# Altium footprint library LED Display Drivers.PcbLib: 4 footprints
Each footprint in its own frame and in the unit in brackets; x right, y up, seen from the top. Pads: shape width x height; smd on the part's side, far side on the other; paste and mask are expansions set on the pad; w line width, h text height; cw(c..) or ccw(c..) is an arc to the next point about the centre after c.
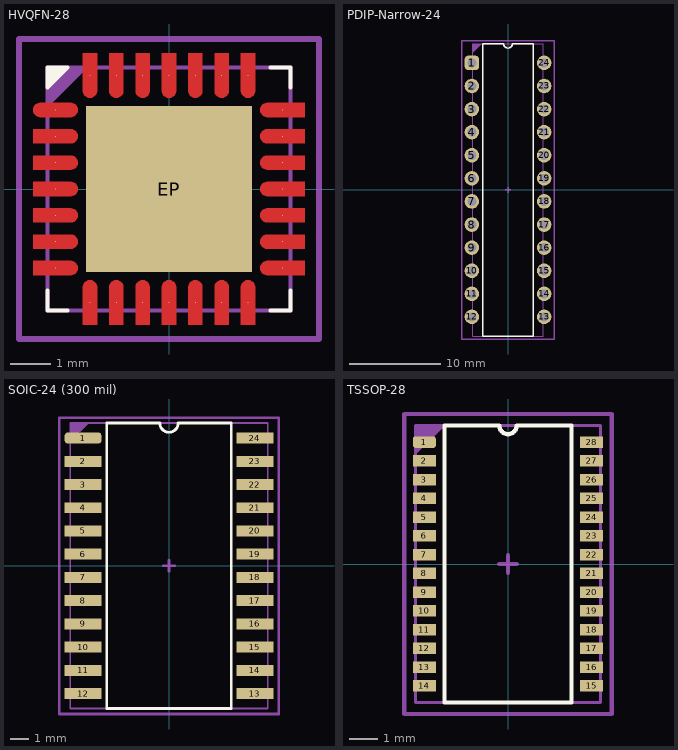
[diagram p0: the footprints below, top view; thin cyan lines are the x and y axes]

## HVQFN-28 [mil]
pads (29):
  round 1 smd: 1(-110.24,76.77) 2(-110.24,51.18) 3(-110.24,25.59) 4(-110.24,0) 5(-110.24,-25.59) 6(-110.24,-51.18) 7(-110.24,-76.77) 8(-76.77,-110.24) 9(-51.18,-110.24) 10(-25.59,-110.24) 11(0,-110.24) 12(25.59,-110.24) 13(51.18,-110.24) 14(76.77,-110.24) 15(110.24,-76.77) 16(110.24,-51.18) 17(110.24,-25.59) 18(110.24,0) 19(110.24,25.59) 20(110.24,51.18) 21(110.24,76.77) 22(76.77,110.24) 23(51.18,110.24) 24(25.59,110.24) 25(0,110.24) 26(-25.59,110.24) 27(-51.18,110.24) 28(-76.77,110.24)
  rect 161.42x161.42 smd paste-118.11: EP(0,0)
Top Layer:
  region: 18.7,-131.89 32.48,-131.89 32.48,-95.47 32.48,-94.79 32.22,-93.46 31.7,-92.21 30.94,-91.08 29.98,-90.12 28.85,-89.37 27.6,-88.85 26.27,-88.58 25.59,-88.58 24.91,-88.58 23.58,-88.85 22.33,-89.37 21.2,-90.12 20.24,-91.08 19.48,-92.21 18.97,-93.46 18.7,-94.8 18.7,-95.47
  region: -131.89,76.77 -131.89,76.09 -131.62,74.76 -131.11,73.51 -130.35,72.38 -129.39,71.42 -128.26,70.67 -127.01,70.15 -125.68,69.88 -125,69.88 -95.47,69.88 -94.79,69.88 -93.46,70.15 -92.21,70.67 -91.08,71.42 -90.12,72.38 -89.37,73.51 -88.85,74.76 -88.58,76.09 -88.58,76.77 -88.58,77.45 -88.85,78.78 -89.37,80.04 -90.12,81.16 -91.08,82.12 -92.21,82.88 -93.46,83.4 -94.8,83.66 -95.47,83.66 -125,83.66 -125.68,83.66 -127.01,83.4 -128.26,82.88 -129.39,82.12 -130.35,81.16 -131.11,80.04 -131.62,78.78 -131.89,77.45
  region: -131.89,58.07 -131.89,44.29 -95.47,44.29 -94.79,44.29 -93.46,44.56 -92.21,45.08 -91.08,45.83 -90.12,46.79 -89.37,47.92 -88.85,49.17 -88.58,50.5 -88.58,51.18 -88.58,51.86 -88.85,53.19 -89.37,54.45 -90.12,55.57 -91.08,56.53 -92.21,57.29 -93.46,57.81 -94.8,58.07 -95.47,58.07
  region: -131.89,32.48 -131.89,18.7 -95.47,18.7 -94.79,18.7 -93.46,18.97 -92.21,19.48 -91.08,20.24 -90.12,21.2 -89.37,22.33 -88.85,23.58 -88.58,24.91 -88.58,25.59 -88.58,26.27 -88.85,27.6 -89.37,28.85 -90.12,29.98 -91.08,30.94 -92.21,31.7 -93.46,32.22 -94.8,32.48 -95.47,32.48
  region: -131.89,6.89 -131.89,-6.89 -95.47,-6.89 -94.79,-6.89 -93.46,-6.62 -92.21,-6.11 -91.08,-5.35 -90.12,-4.39 -89.37,-3.26 -88.85,-2.01 -88.58,-0.68 -88.58,0 -88.58,0.68 -88.85,2.01 -89.37,3.26 -90.12,4.39 -91.08,5.35 -92.21,6.11 -93.46,6.63 -94.8,6.89 -95.47,6.89
  region: -131.89,-18.7 -131.89,-32.48 -95.47,-32.48 -94.79,-32.48 -93.46,-32.22 -92.21,-31.7 -91.08,-30.94 -90.12,-29.98 -89.37,-28.85 -88.85,-27.6 -88.58,-26.27 -88.58,-25.59 -88.58,-24.91 -88.85,-23.58 -89.37,-22.33 -90.12,-21.2 -91.08,-20.24 -92.21,-19.48 -93.46,-18.97 -94.8,-18.7 -95.47,-18.7
  region: -131.89,-44.29 -131.89,-58.07 -95.47,-58.07 -94.79,-58.07 -93.46,-57.81 -92.21,-57.29 -91.08,-56.53 -90.12,-55.57 -89.37,-54.44 -88.85,-53.19 -88.58,-51.86 -88.58,-51.18 -88.58,-50.5 -88.85,-49.17 -89.37,-47.92 -90.12,-46.79 -91.08,-45.83 -92.21,-45.07 -93.46,-44.56 -94.8,-44.29 -95.47,-44.29
  region: -131.89,-69.88 -131.89,-83.66 -95.47,-83.66 -94.79,-83.66 -93.46,-83.4 -92.21,-82.88 -91.08,-82.12 -90.12,-81.16 -89.37,-80.04 -88.85,-78.78 -88.58,-77.45 -88.58,-76.77 -88.58,-76.09 -88.85,-74.76 -89.37,-73.51 -90.12,-72.38 -91.08,-71.42 -92.21,-70.67 -93.46,-70.15 -94.8,-69.88 -95.47,-69.88
  region: -83.66,-131.89 -69.88,-131.89 -69.88,-95.47 -69.88,-94.79 -70.15,-93.46 -70.67,-92.21 -71.42,-91.08 -72.38,-90.12 -73.51,-89.37 -74.76,-88.85 -76.09,-88.58 -76.77,-88.58 -77.45,-88.58 -78.78,-88.85 -80.04,-89.37 -81.16,-90.12 -82.12,-91.08 -82.88,-92.21 -83.4,-93.46 -83.66,-94.8 -83.66,-95.47
  region: -58.07,-131.89 -44.29,-131.89 -44.29,-95.47 -44.29,-94.79 -44.56,-93.46 -45.08,-92.21 -45.83,-91.08 -46.79,-90.12 -47.92,-89.37 -49.17,-88.85 -50.5,-88.58 -51.18,-88.58 -51.86,-88.58 -53.19,-88.85 -54.45,-89.37 -55.57,-90.12 -56.53,-91.08 -57.29,-92.21 -57.81,-93.46 -58.07,-94.8 -58.07,-95.47
  region: -32.48,-131.89 -18.7,-131.89 -18.7,-95.47 -18.7,-94.79 -18.97,-93.46 -19.49,-92.21 -20.24,-91.08 -21.2,-90.12 -22.33,-89.37 -23.58,-88.85 -24.91,-88.58 -25.59,-88.58 -26.27,-88.58 -27.6,-88.85 -28.85,-89.37 -29.98,-90.12 -30.94,-91.08 -31.7,-92.21 -32.22,-93.46 -32.48,-94.8 -32.48,-95.47
  region: -6.89,-131.89 6.89,-131.89 6.89,-95.47 6.89,-94.79 6.62,-93.46 6.11,-92.21 5.35,-91.08 4.39,-90.12 3.26,-89.37 2.01,-88.85 0.68,-88.58 0,-88.58 -0.68,-88.58 -2.01,-88.85 -3.26,-89.37 -4.39,-90.12 -5.35,-91.08 -6.11,-92.21 -6.63,-93.46 -6.89,-94.8 -6.89,-95.47
  region: 44.29,-131.89 58.07,-131.89 58.07,-95.47 58.07,-94.79 57.81,-93.46 57.29,-92.21 56.53,-91.08 55.57,-90.12 54.44,-89.37 53.19,-88.85 51.86,-88.58 51.18,-88.58 50.5,-88.58 49.17,-88.85 47.92,-89.37 46.79,-90.12 45.83,-91.08 45.07,-92.21 44.56,-93.46 44.29,-94.8 44.29,-95.47
  region: 69.88,-131.89 83.66,-131.89 83.66,-95.47 83.66,-94.79 83.4,-93.46 82.88,-92.21 82.12,-91.08 81.16,-90.12 80.04,-89.37 78.78,-88.85 77.45,-88.58 76.77,-88.58 76.09,-88.58 74.76,-88.85 73.51,-89.37 72.38,-90.12 71.42,-91.08 70.67,-92.21 70.15,-93.46 69.88,-94.8 69.88,-95.47
  region: 131.89,-83.66 131.89,-69.88 95.47,-69.88 94.79,-69.88 93.46,-70.15 92.21,-70.67 91.08,-71.42 90.12,-72.38 89.37,-73.51 88.85,-74.76 88.58,-76.09 88.58,-76.77 88.58,-77.45 88.85,-78.78 89.37,-80.04 90.12,-81.16 91.08,-82.12 92.21,-82.88 93.46,-83.4 94.8,-83.66 95.47,-83.66
  region: 131.89,-58.07 131.89,-44.29 95.47,-44.29 94.79,-44.29 93.46,-44.56 92.21,-45.08 91.08,-45.83 90.12,-46.79 89.37,-47.92 88.85,-49.17 88.58,-50.5 88.58,-51.18 88.58,-51.86 88.85,-53.19 89.37,-54.45 90.12,-55.57 91.08,-56.53 92.21,-57.29 93.46,-57.81 94.8,-58.07 95.47,-58.07
  region: 131.89,-32.48 131.89,-18.7 95.47,-18.7 94.79,-18.7 93.46,-18.97 92.21,-19.48 91.08,-20.24 90.12,-21.2 89.37,-22.33 88.85,-23.58 88.58,-24.91 88.58,-25.59 88.58,-26.27 88.85,-27.6 89.37,-28.85 90.12,-29.98 91.08,-30.94 92.21,-31.7 93.46,-32.22 94.8,-32.48 95.47,-32.48
  region: 131.89,-6.89 131.89,6.89 95.47,6.89 94.79,6.89 93.46,6.62 92.21,6.11 91.08,5.35 90.12,4.39 89.37,3.26 88.85,2.01 88.58,0.68 88.58,0 88.58,-0.68 88.85,-2.01 89.37,-3.26 90.12,-4.39 91.08,-5.35 92.21,-6.11 93.46,-6.63 94.8,-6.89 95.47,-6.89
  region: 131.89,18.7 131.89,32.48 95.47,32.48 94.79,32.48 93.46,32.22 92.21,31.7 91.08,30.94 90.12,29.98 89.37,28.85 88.85,27.6 88.58,26.27 88.58,25.59 88.58,24.91 88.85,23.58 89.37,22.33 90.12,21.2 91.08,20.24 92.21,19.48 93.46,18.97 94.8,18.7 95.47,18.7
  region: 131.89,44.29 131.89,58.07 95.47,58.07 94.79,58.07 93.46,57.81 92.21,57.29 91.08,56.53 90.12,55.57 89.37,54.44 88.85,53.19 88.58,51.86 88.58,51.18 88.58,50.5 88.85,49.17 89.37,47.92 90.12,46.79 91.08,45.83 92.21,45.07 93.46,44.56 94.8,44.29 95.47,44.29
  region: 131.89,69.88 131.89,83.66 95.47,83.66 94.79,83.66 93.46,83.4 92.21,82.88 91.08,82.12 90.12,81.16 89.37,80.04 88.85,78.78 88.58,77.45 88.58,76.77 88.58,76.09 88.85,74.76 89.37,73.51 90.12,72.38 91.08,71.42 92.21,70.67 93.46,70.15 94.8,69.88 95.47,69.88
  region: 83.66,131.89 69.88,131.89 69.88,95.47 69.88,94.79 70.15,93.46 70.67,92.21 71.42,91.08 72.38,90.12 73.51,89.37 74.76,88.85 76.09,88.58 76.77,88.58 77.45,88.58 78.78,88.85 80.04,89.37 81.16,90.12 82.12,91.08 82.88,92.21 83.4,93.46 83.66,94.8 83.66,95.47
  region: 58.07,131.89 44.29,131.89 44.29,95.47 44.29,94.79 44.56,93.46 45.08,92.21 45.83,91.08 46.79,90.12 47.92,89.37 49.17,88.85 50.5,88.58 51.18,88.58 51.86,88.58 53.19,88.85 54.45,89.37 55.57,90.12 56.53,91.08 57.29,92.21 57.81,93.46 58.07,94.8 58.07,95.47
  region: 32.48,131.89 18.7,131.89 18.7,95.47 18.7,94.79 18.97,93.46 19.48,92.21 20.24,91.08 21.2,90.12 22.33,89.37 23.58,88.85 24.91,88.58 25.59,88.58 26.27,88.58 27.6,88.85 28.85,89.37 29.98,90.12 30.94,91.08 31.7,92.21 32.22,93.46 32.48,94.8 32.48,95.47
  region: 6.89,131.89 -6.89,131.89 -6.89,95.47 -6.89,94.79 -6.63,93.46 -6.11,92.21 -5.35,91.08 -4.39,90.12 -3.26,89.37 -2.01,88.85 -0.68,88.58 0,88.58 0.68,88.58 2.01,88.85 3.26,89.37 4.39,90.12 5.35,91.08 6.11,92.21 6.63,93.46 6.89,94.8 6.89,95.47
  region: -18.7,131.89 -32.48,131.89 -32.48,95.47 -32.48,94.79 -32.22,93.46 -31.7,92.21 -30.94,91.08 -29.98,90.12 -28.85,89.37 -27.6,88.85 -26.27,88.58 -25.59,88.58 -24.91,88.58 -23.58,88.85 -22.33,89.37 -21.2,90.12 -20.24,91.08 -19.48,92.21 -18.97,93.46 -18.7,94.8 -18.7,95.47
  region: -44.29,131.89 -58.07,131.89 -58.07,95.47 -58.07,94.79 -57.81,93.46 -57.29,92.21 -56.53,91.08 -55.57,90.12 -54.44,89.37 -53.19,88.85 -51.86,88.58 -51.18,88.58 -50.5,88.58 -49.17,88.85 -47.92,89.37 -46.79,90.12 -45.83,91.08 -45.07,92.21 -44.56,93.46 -44.29,94.8 -44.29,95.47
  region: -69.88,131.89 -83.66,131.89 -83.66,95.47 -83.66,94.79 -83.4,93.46 -82.88,92.21 -82.12,91.08 -81.16,90.12 -80.04,89.37 -78.78,88.85 -77.45,88.58 -76.77,88.58 -76.09,88.58 -74.76,88.85 -73.51,89.37 -72.38,90.12 -71.42,91.08 -70.67,92.21 -70.15,93.46 -69.88,94.8 -69.88,95.47
Top Overlay:
  region: -118.11,118.11 -118.11,98.43 -98.43,118.11
  lines w3.94: -118.11,-98.43 -118.11,-118.11 -98.43,-118.11 ; 98.43,-118.11 118.11,-118.11 118.11,-98.43 ; 98.43,118.11 118.11,118.11 118.11,98.43 ; -118.11,98.43 -98.43,118.11 -118.11,118.11 -118.11,98.43
Top Assembly:
  region: -118.11,118.11 -118.11,78.74 -78.74,118.11
  lines w3.94: -118.11,-118.11 -118.11,118.11 118.11,118.11 118.11,-118.11 -118.11,-118.11
  text "'.Designator'" at -178.42,-13.12 h31.5
Top Courtyard (Mech6):
  lines w6.02: -11.81,0 11.81,0 ; 0,-11.81 0,11.81 ; -145.67,-145.67 -145.67,145.67 145.67,145.67 145.67,-145.67 -145.67,-145.67
3D body "PCA9685BS-118--3DModel-STEP-56544.STEP": height 39.37, standoff 0, extent -118.11,-118.11 118.11,118.11

## PDIP-Narrow-24 [mm]
pads (24):
  rrect50% 1.6x1.6 hole 1: 1(-3.97,13.97)
  round 1.6 hole 1: 2(-3.97,11.43) 3(-3.97,8.89) 4(-3.97,6.35) 5(-3.97,3.81) 6(-3.97,1.27) 7(-3.97,-1.27) 8(-3.97,-3.81) 9(-3.97,-6.35) 10(-3.97,-8.89) 11(-3.97,-11.43) 12(-3.97,-13.97) 13(3.97,-13.97) 14(3.97,-11.43) 15(3.97,-8.89) 16(3.97,-6.35) 17(3.97,-3.81) 18(3.97,-1.27) 19(3.97,1.27) 20(3.97,3.81) 21(3.97,6.35) 22(3.97,8.89) 23(3.97,11.43) 24(3.97,13.97)
Top Overlay:
  lines w0.153: -2.8,-16.1 2.8,-16.1 2.8,16.1 0.5,16.1 cw(c0,16.1) -0.5,16.1 -2.8,16.1 -2.8,-16.1
Top Assembly:
  region: -3.9,16.1 -3.9,15.1 -2.9,16.1
  lines w0.1: -3.9,-16.1 3.9,-16.1 3.9,16.1 -3.9,16.1 -3.9,-16.1
  text "'.Designator'" at -4.532,-0.333 h0.8
Top Courtyard (Mech6):
  lines w0.153: -0.3,0 0.3,0 ; 0,-0.3 0,0.3 ; -5.1,-16.4 5.1,-16.4 5.1,16.4 -5.1,16.4 -5.1,-16.4
3D body "User Library-DIP24.STEP": height 4.57, standoff -3.81, extent -3.91,-16.065 3.91,16.065

## SOIC-24 (300 mil) [mm]
pads (24):
  rrect50% 2x0.6 smd: 1(-4.7,6.985)
  rect 2x0.6 smd: 2(-4.7,5.715) 3(-4.7,4.445) 4(-4.7,3.175) 5(-4.7,1.905) 6(-4.7,0.635) 7(-4.7,-0.635) 8(-4.7,-1.905) 9(-4.7,-3.175) 10(-4.7,-4.445) 11(-4.7,-5.715) 12(-4.7,-6.985) 13(4.7,-6.985) 14(4.7,-5.715) 15(4.7,-4.445) 16(4.7,-3.175) 17(4.7,-1.905) 18(4.7,-0.635) 19(4.7,0.635) 20(4.7,1.905) 21(4.7,3.175) 22(4.7,4.445) 23(4.7,5.715) 24(4.7,6.985)
Top Overlay:
  lines w0.153: -3.4,-7.8 3.4,-7.8 3.4,7.8 0.5,7.8 cw(c0,7.8) -0.5,7.8 -3.4,7.8 -3.4,-7.8
Top Assembly:
  region: -5.4,7.8 -5.4,6.8 -4.4,7.8
  lines w0.1: -5.4,-7.8 5.4,-7.8 5.4,7.8 -5.4,7.8 -5.4,-7.8
  text "'.Designator'" at -4.532,-0.333 h0.8
Top Courtyard (Mech6):
  lines w0.153: -0.3,0 0.3,0 ; 0,-0.3 0,0.3 ; -6,-8.1 6,-8.1 6,8.1 -6,8.1 -6,-8.1
3D body "User Library-SOIC-24.step": height 2.7, standoff 0, extent -5.325,-7.8 5.325,7.8

## TSSOP-28 [mm]
pads (28):
  rrect50% 0.8x0.4 smd: 1(-2.9,4.225)
  rect 0.8x0.4 smd: 2(-2.9,3.575) 3(-2.9,2.925) 4(-2.9,2.275) 5(-2.9,1.625) 6(-2.9,0.975) 7(-2.9,0.325) 8(-2.9,-0.325) 9(-2.9,-0.975) 10(-2.9,-1.625) 11(-2.9,-2.275) 12(-2.9,-2.925) 13(-2.9,-3.575) 14(-2.9,-4.225) 15(2.9,-4.225) 16(2.9,-3.575) 17(2.9,-2.925) 18(2.9,-2.275) 19(2.9,-1.625) 20(2.9,-0.975) 21(2.9,-0.325) 22(2.9,0.325) 23(2.9,0.975) 24(2.9,1.625) 25(2.9,2.275) 26(2.9,2.925) 27(2.9,3.575) 28(2.9,4.225)
Top Overlay:
  lines w0.153: -2.2,-4.8 2.2,-4.8 2.2,4.8 0.3,4.8 cw(c0,4.8) -0.3,4.8 -2.2,4.8 -2.2,-4.8
Top Assembly:
  region: -3.2,4.8 -3.2,3.8 -2.2,4.8
  lines w0.1: -3.2,-4.8 3.2,-4.8 3.2,4.8 -3.2,4.8 -3.2,-4.8
  text "'.Designator'" at -4.532,-0.333 h0.8
Top Courtyard (Mech6):
  lines w0.153: -0.3,0 0.3,0 ; 0,-0.3 0,0.3 ; -3.6,-5.2 -3.6,5.2 3.6,5.2 3.6,-5.2 -3.6,-5.2
3D body "User Library-ADM3311EARUZ.step": height 1.15, standoff 0.01, extent -3.2,-4.85 3.2,4.85